# Altium schematic symbol library DLW5BSM801TQ2L.Schlib: 1 symbol
Pins are listed as number, name and electrical type; pins without a type are passive.

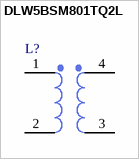
[diagram p0: symbol DLW5BSM801TQ2L]

## DLW5BSM801TQ2L
designator L?  (value not drawn)
RF transformer
pins: 1, 2, 3, 4
2 alternate drawings of the same symbol